# Altium footprint library 二三极管 MOS.PCBLIB: 88 footprints (part 5 of 6)
Each footprint in its own frame and in the unit in brackets; x right, y up, seen from the top. Pads: shape width x height; smd on the part's side, far side on the other; paste and mask are expansions set on the pad; w line width, h text height; cw(c..) or ccw(c..) is an arc to the next point about the centre after c.
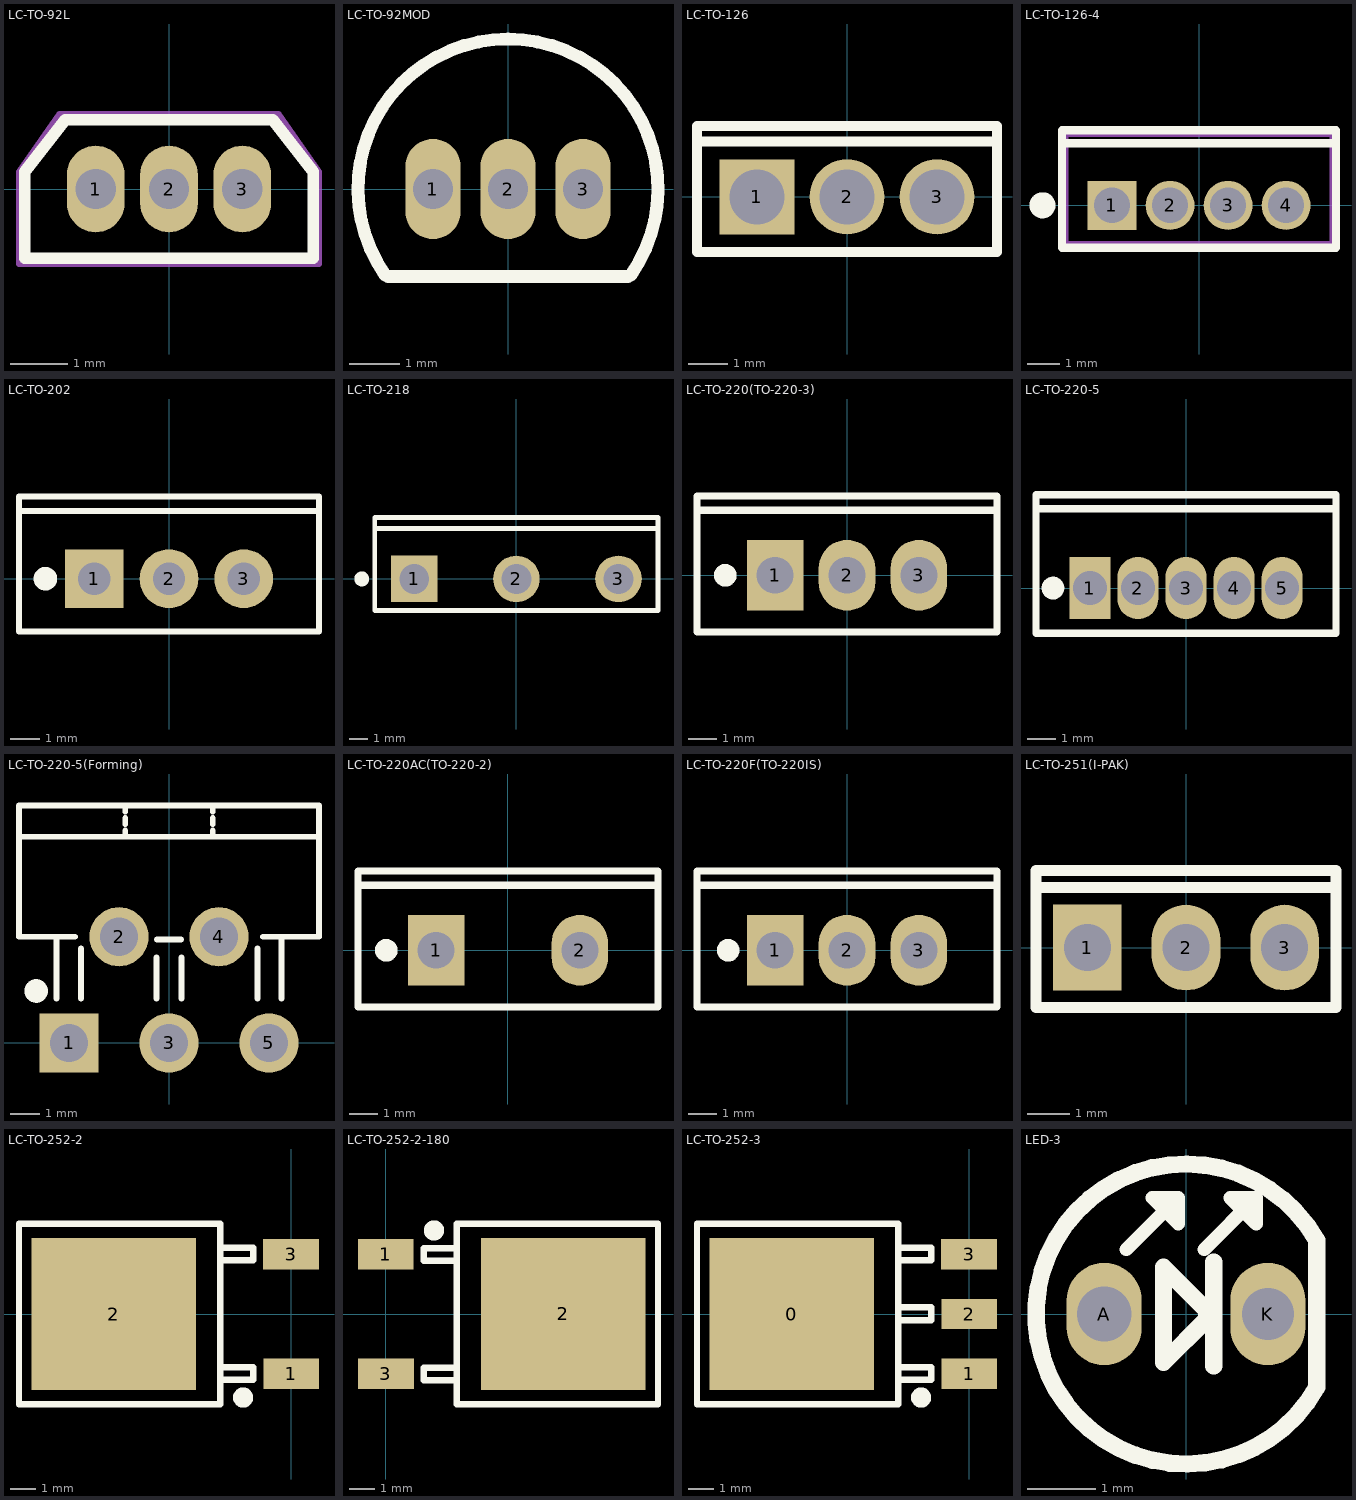
[diagram p4: the footprints below, top view; thin cyan lines are the x and y axes]

## LC-TO-92L [mm]
pads (3):
  oval 1x1.5 hole 0.7 mask+0.051: 1(-1.27,0) 2(0,0) 3(1.27,0)
TopOverlay:
  lines w0.2: -2.5,-1.2 2.5,-1.2 2.5,0.3 1.8,1.2 -1.8,1.2 -2.5,0.3 -2.5,-1.2
Mechanical13:
  lines w0.1: -2.6,-1.3 -2.6,0.3 -1.9,1.3 1.9,1.3 2.6,0.3 2.6,-1.3 -2.6,-1.3

## LC-TO-92MOD [mm]
pads (3):
  oval 1.1x2 hole 0.8: 1(-1.5,0) 2(0,0) 3(1.5,0)
TopOverlay:
  lines w0.254: -2.457,-1.721 cw(c0,0) 2.457,-1.721 ; -2.4,-1.75 2.4,-1.75

## LC-TO-126 [mm]
pads (3):
  rect 1.9x1.9 hole 1.4: 1(-2.28,0)
  round 1.9 hole 1.4: 2(0,0) 3(2.28,0)
TopOverlay:
  lines w0.254: -3.8,1.4 3.8,1.4 ; -3.8,-1.4 3.8,-1.4 3.8,1.8 -3.8,1.8 -3.8,-1.4
3D body: height 13.19, standoff -3.54, extent -3.8,-1 3.8,1.55

## LC-TO-126-4 [mm]
pads (4):
  rect 1.5x1.5 hole 1.1 mask+0.051: 1(-2.67,0)
  round 1.5 hole 1.1 mask+0.051: 2(-0.89,0) 3(0.89,0) 4(2.67,0)
TopOverlay:
  circle w0.4: c-4.8,0 r0.2
  lines w0.254: -4.2,1.9 4.2,1.9 ; -4.2,-1.3 4.2,-1.3 4.2,2.3 -4.2,2.3 -4.2,-1.3
Mechanical13:
  lines w0.2: -4.1,-1.2 4.1,-1.2 4.1,2.2 -4.1,2.2 -4.1,-1.2

## LC-TO-202 [mm]
pads (3):
  rect 2x2 hole 1.1: 1(-2.54,0)
  round 2 hole 1.1: 2(0,0) 3(2.54,0)
TopOverlay:
  circle w0.4: c-4.2,0 r0.2
  lines w0.203: -5.1,2.3 5.1,2.3 ; -5.1,-1.8 -5.1,2.8 5.1,2.8 5.1,-1.8 -5.1,-1.8

## LC-TO-218 [mm]
pads (3):
  rect 2.5x2.5 hole 1.6: 1(-5.48,0)
  round 2.5 hole 1.6: 2(0,0) 3(5.48,0)
TopOverlay:
  circle w0.4: c-8.3,0 r0.2
  lines w0.254: -7.6,2.7 7.6,2.7 ; -7.6,-1.7 7.6,-1.7 7.6,3.3 -7.6,3.3 -7.6,-1.7

## LC-TO-220(TO-220-3) [mm]
pads (3):
  rect 2x2.5 hole 1.3: 1(-2.54,0)
  oval 2x2.5 hole 1.3: 2(0,0) 3(2.54,0)
TopOverlay:
  circle w0.4: c-4.3,0 r0.2
  lines w0.254: -5.3,2.3 5.3,2.3 ; -5.3,-2 5.3,-2 5.3,2.8 -5.3,2.8 -5.3,-2
3D body: height 19.6, standoff -8.87, extent -5.08,-1.451 5.08,2.9

## LC-TO-220-5 [mm]
pads (5):
  rect 1.45x2.2 hole 1.2 mask+0.051: 1(-3.4,0)
  oval 1.45x2.2 hole 1.2 mask+0.051: 2(-1.7,0) 3(0,0) 4(1.7,0) 5(3.4,0)
TopOverlay:
  circle w0.4: c-4.7,0 r0.2
  lines w0.254: -5.2,2.8 5.3,2.8 ; -5.3,-1.6 -5.3,3.3 5.3,3.3 5.3,-1.6 -5.3,-1.6

## LC-TO-220-5(Forming) [mm]
pads (5):
  rect 2x2 hole 1.3: 1(-3.387,0)
  round 2 hole 1.3: 2(-1.693,3.598) 3(0,0) 4(1.693,3.598) 5(3.387,0)
TopOverlay:
  circle w0.4: c-4.5,1.761 r0.2
  lines w0.2: -5.08,6.985 5.08,6.985 ; -3.81,1.5 -3.81,3.598 ; -3.187,3.598 -5.08,3.598 -5.08,8.043 5.08,8.043 5.08,3.598 3.187,3.598 ; -2.987,1.5 -2.987,3.2 ; -1.482,6.985 -1.482,7.197 ; -1.482,7.408 -1.482,7.62 ; -1.482,7.832 -1.482,8.043 ; -0.423,1.5 -0.423,2.9 ; 0.423,1.5 0.423,2.9 ; 1.482,6.985 1.482,7.197 ; 1.482,7.408 1.482,7.62 ; 1.482,7.832 1.482,8.043 ; 2.994,1.5 2.994,3.2 ; 3.81,1.5 3.81,3.598
  lines w0.203: -0.4,3.5 0.4,3.5

## LC-TO-220AC(TO-220-2) [mm]
pads (2):
  rect 2x2.5 hole 1.3: 1(-2.54,0)
  oval 2x2.5 hole 1.3: 2(2.54,0)
TopOverlay:
  circle w0.4: c-4.3,0 r0.2
  lines w0.254: -5.3,2.3 5.3,2.3 ; -5.3,-2 5.3,-2 5.3,2.8 -5.3,2.8 -5.3,-2
3D body: height 19.3, standoff -9.08, extent -4.766,-2.3 4.886,2.2

## LC-TO-220F(TO-220IS) [mm] "=TO-220FP, Full-pak Package"
pads (3):
  rect 2x2.5 hole 1.3: 1(-2.54,0)
  oval 2x2.5 hole 1.3: 2(0,0) 3(2.54,0)
TopOverlay:
  circle w0.4: c-4.2,0 r0.2
  lines w0.254: -5.3,2.3 5.3,2.3 ; -5.3,-2 -5.3,2.8 5.3,2.8 5.3,-2 -5.3,-2
3D body: height 19.37, standoff -9.48, extent -5.07,-1.8 5.07,2.9

## LC-TO-251(I-PAK) [mm]
pads (3):
  rect 1.6x2 hole 1.1: 1(-2.3,0)
  oval 1.6x2 hole 1.1: 2(0,0) 3(2.3,0)
TopOverlay:
  lines w0.254: -3.5,1.4 3.5,1.4 ; -3.5,1.4 -3.5,-1.4 3.5,-1.4 3.5,1.4 ; -3.5,1.4 -3.5,1.8 3.5,1.8 3.5,1.4
3D body: height 9.46, standoff -3.92, extent -3.3,-0.9 3.3,1.4

## LC-TO-252-2 [mm]
pads (3):
  rect 2.2x1.2 smd: 1(0,-2.361) 3(-0.004,2.361)
  rect 6.5x6 smd: 2(-7,0)
TopOverlay:
  circle w0.4: c-1.9,-3.3 r0.2
  lines w0.254: -2.804,2.123 -1.504,2.123 -1.504,2.623 -2.804,2.623 ; -2.8,-2.6 -1.5,-2.6 -1.5,-2.1 -2.8,-2.1 ; -10.75,-3.573 -10.75,3.573 -2.8,3.573 -2.8,-3.573 -10.75,-3.573
3D body: height 2.44, standoff 0.03, extent -9.738,-3.27 0.2,3.27

## LC-TO-252-2-180 [mm] "180度编带包装"
pads (3):
  rect 2.2x1.2 smd: 1(0,2.361) 3(0.004,-2.361)
  rect 6.5x6 smd: 2(7,0)
TopOverlay:
  circle w0.4: c1.9,3.3 r0.2
  lines w0.254: 2.8,2.1 1.5,2.1 1.5,2.6 2.8,2.6 ; 2.804,-2.623 1.504,-2.623 1.504,-2.123 2.804,-2.123 ; 2.8,-3.573 10.75,-3.573 10.75,3.573 2.8,3.573 2.8,-3.573
3D body: height 2.44, standoff 0.03, extent -0.2,-3.27 9.738,3.27

## LC-TO-252-3 [mm]
pads (4):
  rect 6.5x6 smd: 0(-7,0)
  rect 2.2x1.2 smd: 1(0,-2.361) 2(0,0) 3(-0.004,2.361)
TopOverlay:
  circle w0.4: c-1.9,-3.3 r0.2
  lines w0.254: -2.804,2.123 -1.504,2.123 -1.504,2.623 -2.804,2.623 ; -2.8,-2.6 -1.5,-2.6 -1.5,-2.1 -2.8,-2.1 ; -2.8,-0.239 -1.5,-0.239 -1.5,0.261 -2.8,0.261 ; -10.75,-3.573 -10.75,3.573 -2.8,3.573 -2.8,-3.573 -10.75,-3.573

## LED-3 [mm]
pads (2):
  oval 1.1x1.5 hole 0.8: A(-1.2,0)
  oval 1.1x1.5 hole 0.762: K(1.2,0)
TopOverlay:
  lines w0.198: -0.878,0.946 -0.116,1.708 ; 0.265,0.946 1.027,1.708 ; -0.116,1.708 -0.497,1.708 -0.116,1.327 -0.116,1.708 ; 1.027,1.708 0.646,1.708 1.027,1.327 1.027,1.708
  lines w0.254: 0.406,-0.762 0.406,0.762 ; 1.916,-1.073 1.916,1.082 ccw(c0,0) 1.919,-1.076 ; -0.33,-0.711 0.305,-0.076 0.305,0.051 -0.33,0.686 -0.33,-0.711